# Altium footprint library LQFP48.PcbLib: 1 footprints
Each footprint in its own frame and in the unit in brackets; x right, y up, seen from the top. Pads: shape width x height; smd on the part's side, far side on the other; paste and mask are expansions set on the pad; w line width, h text height; cw(c..) or ccw(c..) is an arc to the next point about the centre after c.
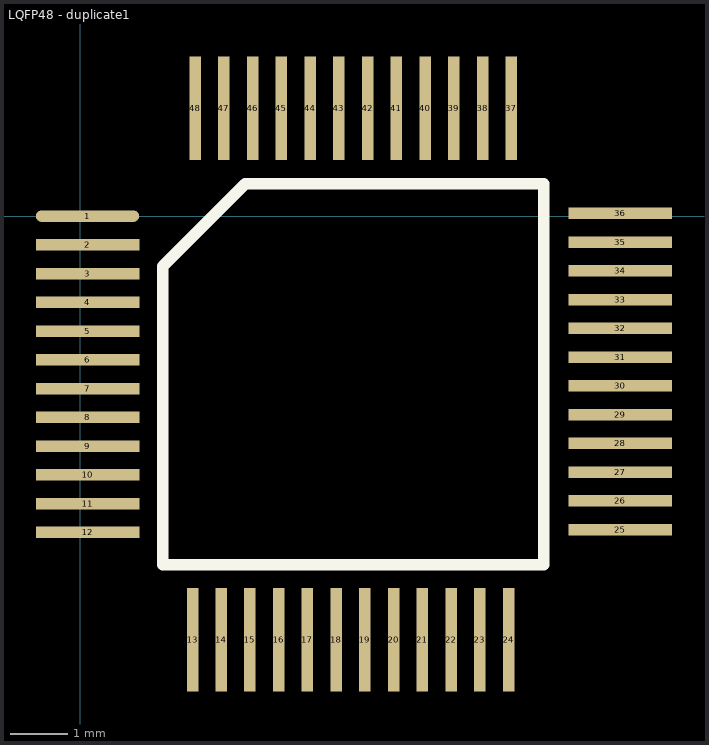
[diagram p0: the footprint, top view; thin cyan lines are the x and y axes]

## LQFP48 - duplicate1 [mm]
pads (48):
  oval 1.8x0.2 smd: 1(0.127,0)
  rect 1.8x0.2 smd: 2(0.127,-0.5) 3(0.127,-1) 4(0.127,-1.5) 5(0.127,-2) 6(0.127,-2.5) 7(0.127,-3) 8(0.127,-3.5) 9(0.127,-4) 10(0.127,-4.5) 11(0.127,-5) 12(0.127,-5.5) 25(9.398,-5.453) 26(9.398,-4.953) 27(9.398,-4.453) 28(9.398,-3.953) 29(9.398,-3.453) 30(9.398,-2.953) 31(9.398,-2.453) 32(9.398,-1.953) 33(9.398,-1.453) 34(9.398,-0.953) 35(9.398,-0.453) 36(9.398,0.047)
  rect 0.2x1.8 smd: 13(1.953,-7.366) 14(2.453,-7.366) 15(2.953,-7.366) 16(3.453,-7.366) 17(3.953,-7.366) 18(4.453,-7.366) 19(4.953,-7.366) 20(5.453,-7.366) 21(5.953,-7.366) 22(6.453,-7.366) 23(6.953,-7.366) 24(7.453,-7.366) 37(7.5,1.873) 38(7,1.873) 39(6.5,1.873) 40(6,1.873) 41(5.5,1.873) 42(5,1.873) 43(4.5,1.873) 44(4,1.873) 45(3.5,1.873) 46(3,1.873) 47(2.5,1.873) 48(2,1.873)
Top Overlay:
  lines w0.2: 1.435,-6.065 8.065,-6.065 8.065,0.565 2.87,0.565 1.435,-0.87 1.435,-6.065